# Altium footprint library Orient, AMC0802BR-B-B6WTDW-I2C.PcbLib: 1 footprints
Each footprint in its own frame and in the unit in brackets; x right, y up, seen from the top. Pads: shape width x height; smd on the part's side, far side on the other; paste and mask are expansions set on the pad; w line width, h text height; cw(c..) or ccw(c..) is an arc to the next point about the centre after c.
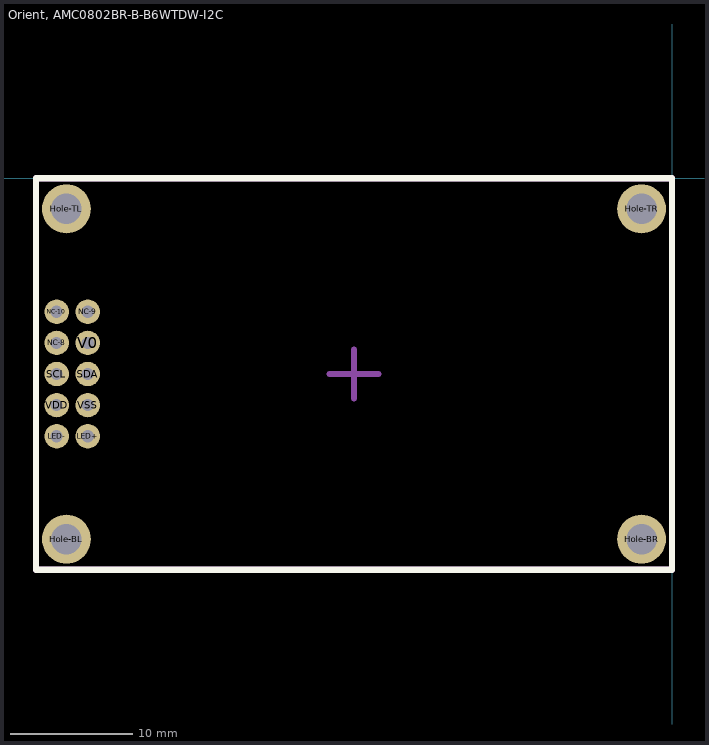
[diagram p0: the footprint, top view; thin cyan lines are the x and y axes]

## Orient, AMC0802BR-B-B6WTDW-I2C [mm] "Orient, AMC0802BR-B-B6WTDW-I2C"
height 14
pads (14):
  round 4 hole 2.5 mask+0.05: Hole-BL(-49.5,-29.5) Hole-BR(-2.5,-29.5) Hole-TL(-49.5,-2.5) Hole-TR(-2.5,-2.5)
  round 2 hole 1 mask+0.05: LED+(-47.76,-21.08) LED-(-50.3,-21.08) NC-8(-50.3,-13.46) NC-9(-47.76,-10.92) NC-10(-50.3,-10.92) SCL(-50.3,-16) SDA(-47.76,-16) V0(-47.76,-13.46) VDD(-50.3,-18.54) VSS(-47.76,-18.54)
Top Overlay:
  lines w0.5: -52,-32 0,-32 0,0 -52,0 -52,-32
Top Assembly:
  lines w0.5: -52,-32 -52,0 0,0 0,-32 -52,-32
Top Designator:
  text ".Designator" at -36,-29.061 h5
Top Component Center:
  lines w0.5: -28,-16 -24,-16 ; -26,-18 -26,-14
3D body "Newhaven, NHD-0208BZ-RN-GBW.step": height 9.5, standoff 0.3, extent -55,-32 3,0